# Altium footprint library Connector_Audio.PcbLib: 212 footprints (part 10 of 14)
Each footprint in its own frame and in the unit in brackets; x right, y up, seen from the top. Pads: shape width x height; smd on the part's side, far side on the other; paste and mask are expansions set on the pad; w line width, h text height; cw(c..) or ccw(c..) is an arc to the next point about the centre after c.
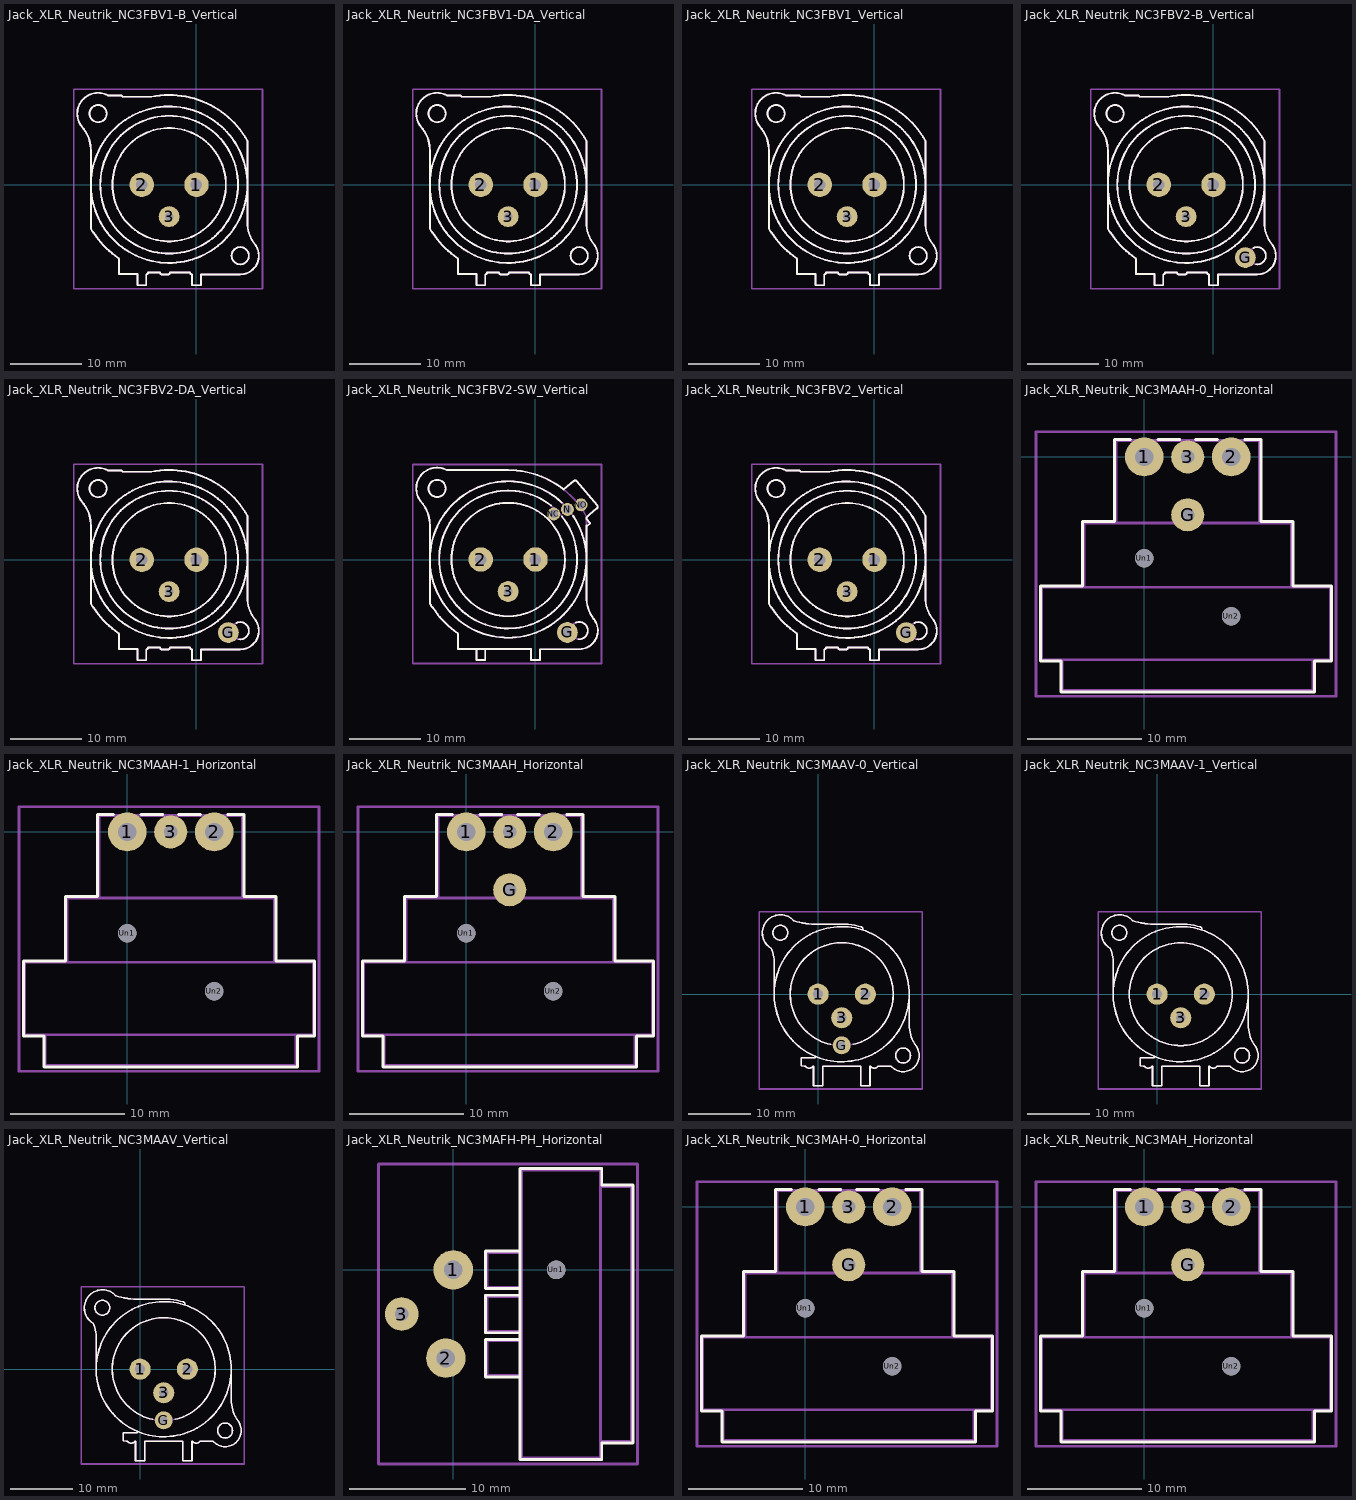
[diagram p9: the footprints below, top view; thin cyan lines are the x and y axes]

## Jack_XLR_Neutrik_NC3FBV1-B_Vertical [mm]
pads (3):
  round 3.4 hole 1.6: 1(0,0) 2(-7.62,0)
  round 2.9 hole 1.2: 3(-3.81,-4.45)
F.SilkS:
  circle w0.254: c6.09,-9.9 r1.2
  circle w0.254: c-3.81,0 r10.9
  circle w0.254: c-3.81,0 r9.6
  circle w0.254: c-3.81,0 r7.9
  circle w0.254: c-13.71,9.9 r1.2
  lines w0.254: -15.916,8.02 cw(c-19.72,4.76) -14.71,4.76 -14.71,-6.12 -14.43,-6.6 ccw(c-14.26,-6.49) -14.314,-6.685 ; -15.909,8.01 cw(c-13.71,9.9) -12.33,12.45 -10.41,12.45 -10.29,12.25 -6.3,12.25 ; -14.31,-6.69 ccw(c-3.81,0) -10.879,-10.249 ; -10.874,-10.253 cw(c-11.01,-10.4) -10.81,-10.39 -10.81,-12.45 -8.24,-12.45 -8.24,-14 -7,-14 -7,-12.5 ccw(c-7,-12.25) -6.75,-12.25 -5.07,-12.25 ccw(c-4.82,-12.25) -4.82,-12.5 -3.95,-12.5 ccw(c-3.95,-12.25) -3.7,-12.25 -0.88,-12.25 ccw(c-0.63,-12.25) -0.63,-12.5 -0.63,-14 0.62,-14 0.62,-12.5 6.09,-12.5 ccw(c6.09,-9.9) 8.111,-8.264 ; -6.284,12.253 cw(c-3.81,0) 7.09,6.12 7.09,-5.67 ccw(c12.07,-5.21) 8.112,-8.267
Top Assembly:
  circle w0.254: c6.09,-9.9 r1.2
  circle w0.254: c-3.81,0 r10.9
  circle w0.254: c-3.81,0 r9.6
  circle w0.254: c-3.81,0 r7.9
  circle w0.254: c-13.71,9.9 r1.2
  lines w0.254: -15.916,8.02 cw(c-19.72,4.76) -14.71,4.76 -14.71,-6.12 -14.43,-6.6 ccw(c-14.26,-6.49) -14.314,-6.685 ; -15.909,8.01 cw(c-13.71,9.9) -12.33,12.45 -10.41,12.45 -10.29,12.25 -6.3,12.25 ; -14.31,-6.69 ccw(c-3.81,0) -10.879,-10.249 ; -10.874,-10.253 cw(c-11.01,-10.4) -10.81,-10.39 -10.81,-12.45 -8.24,-12.45 -8.24,-14 -7,-14 -7,-12.5 ccw(c-7,-12.25) -6.75,-12.25 -5.07,-12.25 ccw(c-4.82,-12.25) -4.82,-12.5 -3.95,-12.5 ccw(c-3.95,-12.25) -3.7,-12.25 -0.88,-12.25 ccw(c-0.63,-12.25) -0.63,-12.5 -0.63,-14 0.62,-14 0.62,-12.5 6.09,-12.5 ccw(c6.09,-9.9) 8.111,-8.264 ; -6.284,12.253 cw(c-3.81,0) 7.09,6.12 7.09,-5.67 ccw(c12.07,-5.21) 8.112,-8.267
  text "'.Designator'" at -7.857,0.16 h1
Top Courtyard:
  lines w0.254: -17.1,-14.5 9.2,-14.5 9.2,13.3 -17.1,13.3 -17.1,-14.5
Top Designator:
  text ".Designator" at -11.568,-1.108 h1.52

## Jack_XLR_Neutrik_NC3FBV1-DA_Vertical [mm]
pads (3):
  round 3.4 hole 1.6: 1(0,0) 2(-7.62,0)
  round 2.9 hole 1.2: 3(-3.81,-4.45)
F.SilkS:
  circle w0.254: c6.09,-9.9 r1.2
  circle w0.254: c-3.81,0 r10.9
  circle w0.254: c-3.81,0 r9.6
  circle w0.254: c-3.81,0 r7.9
  circle w0.254: c-13.71,9.9 r1.2
  lines w0.254: -15.916,8.02 cw(c-19.72,4.76) -14.71,4.76 -14.71,-6.12 -14.43,-6.6 ccw(c-14.26,-6.49) -14.314,-6.685 ; -15.909,8.01 cw(c-13.71,9.9) -12.33,12.45 -10.41,12.45 -10.29,12.25 -6.3,12.25 ; -14.31,-6.69 ccw(c-3.81,0) -10.879,-10.249 ; -10.874,-10.253 cw(c-11.01,-10.4) -10.81,-10.39 -10.81,-12.45 -8.24,-12.45 -8.24,-14 -7,-14 -7,-12.5 ccw(c-7,-12.25) -6.75,-12.25 -5.07,-12.25 ccw(c-4.82,-12.25) -4.82,-12.5 -3.95,-12.5 ccw(c-3.95,-12.25) -3.7,-12.25 -0.88,-12.25 ccw(c-0.63,-12.25) -0.63,-12.5 -0.63,-14 0.62,-14 0.62,-12.5 6.09,-12.5 ccw(c6.09,-9.9) 8.111,-8.264 ; -6.284,12.253 cw(c-3.81,0) 7.09,6.12 7.09,-5.67 ccw(c12.07,-5.21) 8.112,-8.267
Top Assembly:
  circle w0.254: c6.09,-9.9 r1.2
  circle w0.254: c-3.81,0 r10.9
  circle w0.254: c-3.81,0 r9.6
  circle w0.254: c-3.81,0 r7.9
  circle w0.254: c-13.71,9.9 r1.2
  lines w0.254: -15.916,8.02 cw(c-19.72,4.76) -14.71,4.76 -14.71,-6.12 -14.43,-6.6 ccw(c-14.26,-6.49) -14.314,-6.685 ; -15.909,8.01 cw(c-13.71,9.9) -12.33,12.45 -10.41,12.45 -10.29,12.25 -6.3,12.25 ; -14.31,-6.69 ccw(c-3.81,0) -10.879,-10.249 ; -10.874,-10.253 cw(c-11.01,-10.4) -10.81,-10.39 -10.81,-12.45 -8.24,-12.45 -8.24,-14 -7,-14 -7,-12.5 ccw(c-7,-12.25) -6.75,-12.25 -5.07,-12.25 ccw(c-4.82,-12.25) -4.82,-12.5 -3.95,-12.5 ccw(c-3.95,-12.25) -3.7,-12.25 -0.88,-12.25 ccw(c-0.63,-12.25) -0.63,-12.5 -0.63,-14 0.62,-14 0.62,-12.5 6.09,-12.5 ccw(c6.09,-9.9) 8.111,-8.264 ; -6.284,12.253 cw(c-3.81,0) 7.09,6.12 7.09,-5.67 ccw(c12.07,-5.21) 8.112,-8.267
  text "'.Designator'" at -7.857,0.16 h1
Top Courtyard:
  lines w0.254: -17.1,-14.5 9.2,-14.5 9.2,13.3 -17.1,13.3 -17.1,-14.5
Top Designator:
  text ".Designator" at -11.568,-1.108 h1.52

## Jack_XLR_Neutrik_NC3FBV1_Vertical [mm]
pads (3):
  round 3.4 hole 1.6: 1(0,0) 2(-7.62,0)
  round 2.9 hole 1.2: 3(-3.81,-4.45)
F.SilkS:
  circle w0.254: c6.09,-9.9 r1.2
  circle w0.254: c-3.81,0 r10.9
  circle w0.254: c-3.81,0 r9.6
  circle w0.254: c-3.81,0 r7.9
  circle w0.254: c-13.71,9.9 r1.2
  lines w0.254: -15.916,8.02 cw(c-19.72,4.76) -14.71,4.76 -14.71,-6.12 -14.43,-6.6 ccw(c-14.26,-6.49) -14.314,-6.685 ; -15.909,8.01 cw(c-13.71,9.9) -12.33,12.45 -10.41,12.45 -10.29,12.25 -6.3,12.25 ; -14.31,-6.69 ccw(c-3.81,0) -10.879,-10.249 ; -10.874,-10.253 cw(c-11.01,-10.4) -10.81,-10.39 -10.81,-12.45 -8.24,-12.45 -8.24,-14 -7,-14 -7,-12.5 ccw(c-7,-12.25) -6.75,-12.25 -5.07,-12.25 ccw(c-4.82,-12.25) -4.82,-12.5 -3.95,-12.5 ccw(c-3.95,-12.25) -3.7,-12.25 -0.88,-12.25 ccw(c-0.63,-12.25) -0.63,-12.5 -0.63,-14 0.62,-14 0.62,-12.5 6.09,-12.5 ccw(c6.09,-9.9) 8.111,-8.264 ; -6.284,12.253 cw(c-3.81,0) 7.09,6.12 7.09,-5.67 ccw(c12.07,-5.21) 8.112,-8.267
Top Assembly:
  circle w0.254: c6.09,-9.9 r1.2
  circle w0.254: c-3.81,0 r10.9
  circle w0.254: c-3.81,0 r9.6
  circle w0.254: c-3.81,0 r7.9
  circle w0.254: c-13.71,9.9 r1.2
  lines w0.254: -15.916,8.02 cw(c-19.72,4.76) -14.71,4.76 -14.71,-6.12 -14.43,-6.6 ccw(c-14.26,-6.49) -14.314,-6.685 ; -15.909,8.01 cw(c-13.71,9.9) -12.33,12.45 -10.41,12.45 -10.29,12.25 -6.3,12.25 ; -14.31,-6.69 ccw(c-3.81,0) -10.879,-10.249 ; -10.874,-10.253 cw(c-11.01,-10.4) -10.81,-10.39 -10.81,-12.45 -8.24,-12.45 -8.24,-14 -7,-14 -7,-12.5 ccw(c-7,-12.25) -6.75,-12.25 -5.07,-12.25 ccw(c-4.82,-12.25) -4.82,-12.5 -3.95,-12.5 ccw(c-3.95,-12.25) -3.7,-12.25 -0.88,-12.25 ccw(c-0.63,-12.25) -0.63,-12.5 -0.63,-14 0.62,-14 0.62,-12.5 6.09,-12.5 ccw(c6.09,-9.9) 8.111,-8.264 ; -6.284,12.253 cw(c-3.81,0) 7.09,6.12 7.09,-5.67 ccw(c12.07,-5.21) 8.112,-8.267
  text "'.Designator'" at -7.857,0.16 h1
Top Courtyard:
  lines w0.254: -17.1,-14.5 9.2,-14.5 9.2,13.3 -17.1,13.3 -17.1,-14.5
Top Designator:
  text ".Designator" at -11.568,-1.108 h1.52

## Jack_XLR_Neutrik_NC3FBV2-B_Vertical [mm]
pads (4):
  round 3.4 hole 1.6: 1(0,0) 2(-7.62,0)
  round 2.9 hole 1.2: 3(-3.81,-4.45) G(4.44,-10.16)
F.SilkS:
  circle w0.254: c-3.81,0 r10.9
  circle w0.254: c-3.81,0 r9.6
  circle w0.254: c-3.81,0 r7.9
  circle w0.254: c-13.71,9.9 r1.2
  lines w0.254: -15.916,8.02 cw(c-19.72,4.76) -14.71,4.76 -14.71,-6.12 -14.43,-6.6 ccw(c-14.26,-6.49) -14.314,-6.685 ; -15.909,8.01 cw(c-13.71,9.9) -12.33,12.45 -10.41,12.45 -10.29,12.25 -6.3,12.25 ; -14.31,-6.69 ccw(c-3.81,0) -10.879,-10.249 ; -10.874,-10.253 cw(c-11.01,-10.4) -10.81,-10.39 -10.81,-12.45 -8.24,-12.45 -8.24,-14 -7,-14 -7,-12.5 ccw(c-7,-12.25) -6.75,-12.25 -5.07,-12.25 ccw(c-4.82,-12.25) -4.82,-12.5 -3.95,-12.5 ccw(c-3.95,-12.25) -3.7,-12.25 -0.88,-12.25 ccw(c-0.63,-12.25) -0.63,-12.5 -0.63,-14 0.62,-14 0.62,-12.5 6.09,-12.5 ccw(c6.09,-9.9) 8.111,-8.264 ; -6.284,12.253 cw(c-3.81,0) 7.09,6.12 7.09,-5.67 ccw(c12.07,-5.21) 8.112,-8.267 ; 5.563,-8.816 cw(c6.09,-9.9) 5.9,-11.09
Top Assembly:
  circle w0.254: c6.09,-9.9 r1.2
  circle w0.254: c-3.81,0 r10.9
  circle w0.254: c-3.81,0 r9.6
  circle w0.254: c-3.81,0 r7.9
  circle w0.254: c-13.71,9.9 r1.2
  lines w0.254: -15.916,8.02 cw(c-19.72,4.76) -14.71,4.76 -14.71,-6.12 -14.43,-6.6 ccw(c-14.26,-6.49) -14.314,-6.685 ; -15.909,8.01 cw(c-13.71,9.9) -12.33,12.45 -10.41,12.45 -10.29,12.25 -6.3,12.25 ; -14.31,-6.69 ccw(c-3.81,0) -10.879,-10.249 ; -10.874,-10.253 cw(c-11.01,-10.4) -10.81,-10.39 -10.81,-12.45 -8.24,-12.45 -8.24,-14 -7,-14 -7,-12.5 ccw(c-7,-12.25) -6.75,-12.25 -5.07,-12.25 ccw(c-4.82,-12.25) -4.82,-12.5 -3.95,-12.5 ccw(c-3.95,-12.25) -3.7,-12.25 -0.88,-12.25 ccw(c-0.63,-12.25) -0.63,-12.5 -0.63,-14 0.62,-14 0.62,-12.5 6.09,-12.5 ccw(c6.09,-9.9) 8.111,-8.264 ; -6.284,12.253 cw(c-3.81,0) 7.09,6.12 7.09,-5.67 ccw(c12.07,-5.21) 8.112,-8.267
  text "'.Designator'" at -7.857,0.16 h1
Top Courtyard:
  lines w0.254: -17.1,-14.5 9.2,-14.5 9.2,13.3 -17.1,13.3 -17.1,-14.5
Top Designator:
  text ".Designator" at -11.568,-1.108 h1.52

## Jack_XLR_Neutrik_NC3FBV2-DA_Vertical [mm]
pads (4):
  round 3.4 hole 1.6: 1(0,0) 2(-7.62,0)
  round 2.9 hole 1.2: 3(-3.81,-4.45) G(4.44,-10.16)
F.SilkS:
  circle w0.254: c-3.81,0 r10.9
  circle w0.254: c-3.81,0 r9.6
  circle w0.254: c-3.81,0 r7.9
  circle w0.254: c-13.71,9.9 r1.2
  lines w0.254: -15.916,8.02 cw(c-19.72,4.76) -14.71,4.76 -14.71,-6.12 -14.43,-6.6 ccw(c-14.26,-6.49) -14.314,-6.685 ; -15.909,8.01 cw(c-13.71,9.9) -12.33,12.45 -10.41,12.45 -10.29,12.25 -6.3,12.25 ; -14.31,-6.69 ccw(c-3.81,0) -10.879,-10.249 ; -10.874,-10.253 cw(c-11.01,-10.4) -10.81,-10.39 -10.81,-12.45 -8.24,-12.45 -8.24,-14 -7,-14 -7,-12.5 ccw(c-7,-12.25) -6.75,-12.25 -5.07,-12.25 ccw(c-4.82,-12.25) -4.82,-12.5 -3.95,-12.5 ccw(c-3.95,-12.25) -3.7,-12.25 -0.88,-12.25 ccw(c-0.63,-12.25) -0.63,-12.5 -0.63,-14 0.62,-14 0.62,-12.5 6.09,-12.5 ccw(c6.09,-9.9) 8.111,-8.264 ; -6.284,12.253 cw(c-3.81,0) 7.09,6.12 7.09,-5.67 ccw(c12.07,-5.21) 8.112,-8.267 ; 5.563,-8.816 cw(c6.09,-9.9) 5.9,-11.09
Top Assembly:
  circle w0.254: c6.09,-9.9 r1.2
  circle w0.254: c-3.81,0 r10.9
  circle w0.254: c-3.81,0 r9.6
  circle w0.254: c-3.81,0 r7.9
  circle w0.254: c-13.71,9.9 r1.2
  lines w0.254: -15.916,8.02 cw(c-19.72,4.76) -14.71,4.76 -14.71,-6.12 -14.43,-6.6 ccw(c-14.26,-6.49) -14.314,-6.685 ; -15.909,8.01 cw(c-13.71,9.9) -12.33,12.45 -10.41,12.45 -10.29,12.25 -6.3,12.25 ; -14.31,-6.69 ccw(c-3.81,0) -10.879,-10.249 ; -10.874,-10.253 cw(c-11.01,-10.4) -10.81,-10.39 -10.81,-12.45 -8.24,-12.45 -8.24,-14 -7,-14 -7,-12.5 ccw(c-7,-12.25) -6.75,-12.25 -5.07,-12.25 ccw(c-4.82,-12.25) -4.82,-12.5 -3.95,-12.5 ccw(c-3.95,-12.25) -3.7,-12.25 -0.88,-12.25 ccw(c-0.63,-12.25) -0.63,-12.5 -0.63,-14 0.62,-14 0.62,-12.5 6.09,-12.5 ccw(c6.09,-9.9) 8.111,-8.264 ; -6.284,12.253 cw(c-3.81,0) 7.09,6.12 7.09,-5.67 ccw(c12.07,-5.21) 8.112,-8.267
  text "'.Designator'" at -7.857,0.16 h1
Top Courtyard:
  lines w0.254: -17.1,-14.5 9.2,-14.5 9.2,13.3 -17.1,13.3 -17.1,-14.5
Top Designator:
  text ".Designator" at -11.568,-1.108 h1.52

## Jack_XLR_Neutrik_NC3FBV2-SW_Vertical [mm]
pads (7):
  round 3.4 hole 1.6: 1(0,0) 2(-7.62,0)
  round 2.9 hole 1.2: 3(-3.81,-4.45) G(4.44,-10.16)
  round 1.8 hole 1.2: N(4.445,6.985) NC(2.54,6.35) NO(6.35,7.62)
F.SilkS:
  circle w0.254: c-3.81,0 r7.9
  circle w0.254: c-13.71,9.9 r1.2
  lines w0.254: -15.916,8.02 cw(c-19.72,4.76) -14.71,4.76 -14.71,-6.12 ccw(c-3.809,0.001) -14.421,-6.608 ; -15.912,8.014 cw(c-13.71,9.9) -12.33,12.45 -3.81,12.45 ; -14.42,-6.61 ccw(c-14.26,-6.49) -14.305,-6.685 ; -14.3,-6.69 ccw(c-3.81,0) -10.87,-10.245 ; -10.873,-10.243 cw(c-11.01,-10.39) -10.81,-10.37 -10.81,-12.45 -0.63,-12.45 -0.63,-12.5 ; -8.24,-12.45 -8.24,-14 -7,-14 -7,-12.45 ; -4.81,-12.5 -3.94,-12.5 ; -3.814,12.45 cw(c-3.81,0) 3.92,9.759 ; -0.675,-12.5 -0.63,-12.5 ; 2.148,7.533 ccw(c-3.81,0) 3.69,6 ; 3.686,7.91 ccw(c-3.81,0) 5.22,6.1 ; 3.93,9.76 5.35,10.94 ; 5.3,10.9 cw(c5.54,10.67) 5.77,10.91 8.6,7.54 cw(c8.37,7.35) 8.56,7.12 7.49,6.22 7.09,5.8 7.09,5.68 7.63,5.03 7.25,4.71 7.09,4.72 7.09,-5.24 ccw(c12.08,-5.24) 8.142,-8.305 ; 5.625,-8.79 cw(c6.09,-9.9) 6,-11.1 ; 8.142,-8.303 cw(c6.09,-9.9) 6.09,-12.5 0.62,-12.5 0.62,-14 -0.63,-14 -0.63,-12.5
Top Assembly:
  circle w0.254: c6.09,-9.9 r1.2
  circle w0.254: c-3.81,0 r10.9
  circle w0.254: c-3.81,0 r9.6
  circle w0.254: c-3.81,0 r7.9
  circle w0.254: c-13.71,9.9 r1.2
  lines w0.254: -15.916,8.02 cw(c-19.72,4.76) -14.71,4.76 -14.71,-6.12 ccw(c-3.809,0.001) -14.421,-6.608 ; -15.912,8.014 cw(c-13.71,9.9) -12.33,12.45 -3.81,12.45 ; -14.42,-6.61 ccw(c-14.26,-6.49) -14.305,-6.685 ; -14.3,-6.69 ccw(c-3.81,0) -10.87,-10.245 ; -10.873,-10.243 cw(c-11.01,-10.39) -10.81,-10.37 -10.81,-12.45 -0.63,-12.45 -0.63,-12.5 ; -8.24,-12.45 -8.24,-14 -7,-14 -7,-12.45 ; -4.81,-12.5 -3.94,-12.5 ; -3.808,12.45 cw(c-3.81,0) 7.09,6.015 7.09,-5.24 ccw(c12.08,-5.24) 8.142,-8.305 ; -0.675,-12.5 -0.63,-12.5 ; 3.93,9.76 5.3,10.9 cw(c5.54,10.67) 5.77,10.91 8.6,7.54 cw(c8.37,7.35) 8.56,7.12 7.49,6.22 7.09,5.8 ; 7.09,4.72 7.25,4.71 7.63,5.03 7.09,5.68 ; 8.142,-8.303 cw(c6.09,-9.9) 6.09,-12.5 0.62,-12.5 0.62,-14 -0.63,-14 -0.63,-12.5
  text "'.Designator'" at -7.857,0.16 h1
Top Courtyard:
  lines w0.254: -17.1,-14.5 9.2,-14.5 9.2,13.25 -17.1,13.25 -17.1,-14.5
Top Designator:
  text ".Designator" at -11.568,-1.133 h1.52

## Jack_XLR_Neutrik_NC3FBV2_Vertical [mm]
pads (4):
  round 3.4 hole 1.6: 1(0,0) 2(-7.62,0)
  round 2.9 hole 1.2: 3(-3.81,-4.45) G(4.44,-10.16)
F.SilkS:
  circle w0.254: c-3.81,0 r10.9
  circle w0.254: c-3.81,0 r9.6
  circle w0.254: c-3.81,0 r7.9
  circle w0.254: c-13.71,9.9 r1.2
  lines w0.254: -15.916,8.02 cw(c-19.72,4.76) -14.71,4.76 -14.71,-6.12 -14.43,-6.6 ccw(c-14.26,-6.49) -14.314,-6.685 ; -15.909,8.01 cw(c-13.71,9.9) -12.33,12.45 -10.41,12.45 -10.29,12.25 -6.3,12.25 ; -14.31,-6.69 ccw(c-3.81,0) -10.879,-10.249 ; -10.874,-10.253 cw(c-11.01,-10.4) -10.81,-10.39 -10.81,-12.45 -8.24,-12.45 -8.24,-14 -7,-14 -7,-12.5 ccw(c-7,-12.25) -6.75,-12.25 -5.07,-12.25 ccw(c-4.82,-12.25) -4.82,-12.5 -3.95,-12.5 ccw(c-3.95,-12.25) -3.7,-12.25 -0.88,-12.25 ccw(c-0.63,-12.25) -0.63,-12.5 -0.63,-14 0.62,-14 0.62,-12.5 6.09,-12.5 ccw(c6.09,-9.9) 8.111,-8.264 ; -6.284,12.253 cw(c-3.81,0) 7.09,6.12 7.09,-5.67 ccw(c12.07,-5.21) 8.112,-8.267 ; 5.563,-8.816 cw(c6.09,-9.9) 5.9,-11.09
Top Assembly:
  circle w0.254: c6.09,-9.9 r1.2
  circle w0.254: c-3.81,0 r10.9
  circle w0.254: c-3.81,0 r9.6
  circle w0.254: c-3.81,0 r7.9
  circle w0.254: c-13.71,9.9 r1.2
  lines w0.254: -15.916,8.02 cw(c-19.72,4.76) -14.71,4.76 -14.71,-6.12 -14.43,-6.6 ccw(c-14.26,-6.49) -14.314,-6.685 ; -15.909,8.01 cw(c-13.71,9.9) -12.33,12.45 -10.41,12.45 -10.29,12.25 -6.3,12.25 ; -14.31,-6.69 ccw(c-3.81,0) -10.879,-10.249 ; -10.874,-10.253 cw(c-11.01,-10.4) -10.81,-10.39 -10.81,-12.45 -8.24,-12.45 -8.24,-14 -7,-14 -7,-12.5 ccw(c-7,-12.25) -6.75,-12.25 -5.07,-12.25 ccw(c-4.82,-12.25) -4.82,-12.5 -3.95,-12.5 ccw(c-3.95,-12.25) -3.7,-12.25 -0.88,-12.25 ccw(c-0.63,-12.25) -0.63,-12.5 -0.63,-14 0.62,-14 0.62,-12.5 6.09,-12.5 ccw(c6.09,-9.9) 8.111,-8.264 ; -6.284,12.253 cw(c-3.81,0) 7.09,6.12 7.09,-5.67 ccw(c12.07,-5.21) 8.112,-8.267
  text "'.Designator'" at -7.857,0.16 h1
Top Courtyard:
  lines w0.254: -17.1,-14.5 9.2,-14.5 9.2,13.3 -17.1,13.3 -17.1,-14.5
Top Designator:
  text ".Designator" at -11.568,-1.108 h1.52

## Jack_XLR_Neutrik_NC3MAAH-0_Horizontal [mm]
pads (6):
  round 3.4 hole 1.6: 1(0,0) 2(7.62,0)
  round 2.9 hole 1.2: 3(3.81,0) G(3.81,-5.08)
  round 1.6 hole 1.6: Un1(0,-8.89) Un2(7.62,-13.97)
F.SilkS:
  lines w0.254: -1.19,1.54 -2.61,1.54 -2.61,-5.66 -5.41,-5.66 -5.41,-11.31 -9.11,-11.31 -9.11,-17.9 -7.31,-17.9 -7.31,-20.6 14.93,-20.6 14.93,-17.9 16.43,-17.9 16.43,-11.31 13.03,-11.31 13.03,-5.66 10.23,-5.66 10.23,1.54 8.81,1.54 ; 1.21,1.54 3.11,1.54 ; 4.51,1.54 6.41,1.54
Top Assembly:
  lines w0.254: -7.19,-17.78 -7.19,-20.48 14.81,-20.48 14.81,-17.78 ; -5.29,-11.43 -5.29,-5.78 12.91,-5.78 12.91,-11.43 ; -2.49,-5.78 -2.49,1.42 10.11,1.42 10.11,-5.78 ; -8.99,-17.78 16.31,-17.78 16.31,-11.43 -8.99,-11.43 -8.99,-17.78
  text "'.Designator'" at -0.237,-16.27 h1
Top Courtyard:
  lines w0.254: -9.49,-20.98 16.81,-20.98 16.81,2.2 -9.49,2.2 -9.49,-20.98
Top Designator:
  text ".Designator" at -3.958,-9.898 h1.52
Dwgs.User:
  lines w0.254: -8.99,-17.78 16.31,-17.78

## Jack_XLR_Neutrik_NC3MAAH-1_Horizontal [mm]
pads (5):
  round 3.4 hole 1.6: 1(0,0) 2(7.62,0)
  round 2.9 hole 1.2: 3(3.81,0)
  round 1.6 hole 1.6: Un1(0,-8.89) Un2(7.62,-13.97)
F.SilkS:
  lines w0.254: -1.19,1.54 -2.61,1.54 -2.61,-5.66 -5.41,-5.66 -5.41,-11.31 -9.11,-11.31 -9.11,-17.9 -7.31,-17.9 -7.31,-20.6 14.93,-20.6 14.93,-17.9 16.43,-17.9 16.43,-11.31 13.03,-11.31 13.03,-5.66 10.23,-5.66 10.23,1.54 8.81,1.54 ; 1.21,1.54 3.11,1.54 ; 4.51,1.54 6.41,1.54
Top Assembly:
  lines w0.254: -7.19,-17.78 -7.19,-20.48 14.81,-20.48 14.81,-17.78 ; -5.29,-11.43 -5.29,-5.78 12.91,-5.78 12.91,-11.43 ; -2.49,-5.78 -2.49,1.42 10.11,1.42 10.11,-5.78 ; -8.99,-17.78 16.31,-17.78 16.31,-11.43 -8.99,-11.43 -8.99,-17.78
  text "'.Designator'" at -0.237,-16.27 h1
Top Courtyard:
  lines w0.254: -9.49,-20.98 16.81,-20.98 16.81,2.2 -9.49,2.2 -9.49,-20.98
Top Designator:
  text ".Designator" at -3.958,-9.898 h1.52
Dwgs.User:
  lines w0.254: -8.99,-17.78 16.31,-17.78

## Jack_XLR_Neutrik_NC3MAAH_Horizontal [mm]
pads (6):
  round 3.4 hole 1.6: 1(0,0) 2(7.62,0)
  round 2.9 hole 1.2: 3(3.81,0) G(3.81,-5.08)
  round 1.6 hole 1.6: Un1(0,-8.89) Un2(7.62,-13.97)
F.SilkS:
  lines w0.254: -1.19,1.54 -2.61,1.54 -2.61,-5.66 -5.41,-5.66 -5.41,-11.31 -9.11,-11.31 -9.11,-17.9 -7.31,-17.9 -7.31,-20.6 14.93,-20.6 14.93,-17.9 16.43,-17.9 16.43,-11.31 13.03,-11.31 13.03,-5.66 10.23,-5.66 10.23,1.54 8.81,1.54 ; 1.21,1.54 3.11,1.54 ; 4.51,1.54 6.41,1.54
Top Assembly:
  lines w0.254: -7.19,-17.78 -7.19,-20.48 14.81,-20.48 14.81,-17.78 ; -5.29,-11.43 -5.29,-5.78 12.91,-5.78 12.91,-11.43 ; -2.49,-5.78 -2.49,1.42 10.11,1.42 10.11,-5.78 ; -8.99,-17.78 16.31,-17.78 16.31,-11.43 -8.99,-11.43 -8.99,-17.78
  text "'.Designator'" at -0.237,-16.27 h1
Top Courtyard:
  lines w0.254: -9.49,-20.98 16.81,-20.98 16.81,2.2 -9.49,2.2 -9.49,-20.98
Top Designator:
  text ".Designator" at -3.958,-9.898 h1.52
Dwgs.User:
  lines w0.254: -8.99,-17.78 16.31,-17.78

## Jack_XLR_Neutrik_NC3MAAV-0_Vertical [mm]
pads (4):
  round 3.4 hole 1.6: 1(0,0) 2(7.62,0) 3(3.81,-3.81)
  round 2.9 hole 1.2: G(3.81,-8.255)
F.SilkS:
  circle w0.254: c13.71,-9.9 r1.2
  circle w0.254: c3.81,0 r10.9
  circle w0.254: c-6.09,9.9 r1.2
  lines w0.254: -7.589,7.414 cw(c-6.09,9.9) -3.94,11.85 ; -7.585,7.408 cw(c-12.09,5.24) -7.09,5.24 -7.09,0 ; -3.934,11.845 ccw(c-0.53,22.2) -0.53,11.3 3.81,11.3 cw(c3.81,0) 7,10.84 ; -0.43,-10.05 -0.43,-10.25 -2.74,-10.25 -2.74,-11.53 -2.24,-11.6 -2.06,-11.6 ccw(c-1.44,-11.18) -0.821,-11.601 -0.75,-11.6 -0.75,-14.8 0.75,-14.8 0.75,-11.6 6.87,-11.6 6.87,-14.8 8.37,-14.8 8.37,-11.6 8.44,-11.6 ccw(c9.06,-11.18) 9.679,-11.601 11.74,-11.6 ccw(c13.71,-9.9) 15.815,-8.371 ; 2,-8.1 cw(c3.81,0) 5.635,-8.097 ; 7.004,10.838 cw(c6.92,10.56) 7.21,10.55 7.21,10.36 ; 14.71,0 14.71,-4.95 ccw(c20.56,-4.95) 15.815,-8.372
Top Assembly:
  circle w0.254: c13.71,-9.9 r1.2
  circle w0.254: c3.81,0 r10.9
  circle w0.254: c3.81,0 r8.3
  circle w0.254: c-6.09,9.9 r1.2
  lines w0.254: -7.589,7.414 cw(c-6.09,9.9) -3.94,11.85 ; -7.585,7.408 cw(c-12.09,5.24) -7.09,5.24 -7.09,0 ; -3.934,11.845 ccw(c-0.53,22.2) -0.53,11.3 3.81,11.3 cw(c3.81,0) 7,10.84 ; -0.43,-10.05 -0.43,-10.25 -2.74,-10.25 -2.74,-11.53 -2.24,-11.6 -2.06,-11.6 ccw(c-1.44,-11.18) -0.821,-11.601 -0.75,-11.6 -0.75,-14.8 0.75,-14.8 0.75,-11.6 6.87,-11.6 6.87,-14.8 8.37,-14.8 8.37,-11.6 8.44,-11.6 ccw(c9.06,-11.18) 9.679,-11.601 11.74,-11.6 ccw(c13.71,-9.9) 15.815,-8.371 ; 7.004,10.838 cw(c6.92,10.56) 7.21,10.55 7.21,10.36 ; 14.71,0 14.71,-4.95 ccw(c20.56,-4.95) 15.815,-8.372
  text "'.Designator'" at -0.237,0.16 h1
Top Courtyard:
  lines w0.254: -9.5,-15.3 16.8,-15.3 16.8,13.3 -9.5,13.3 -9.5,-15.3
Top Designator:
  text ".Designator" at -3.968,-1.508 h1.52

## Jack_XLR_Neutrik_NC3MAAV-1_Vertical [mm]
pads (3):
  round 3.4 hole 1.6: 1(0,0) 2(7.62,0) 3(3.81,-3.81)
F.SilkS:
  circle w0.254: c13.71,-9.9 r1.2
  circle w0.254: c3.81,0 r10.9
  circle w0.254: c3.81,0 r8.3
  circle w0.254: c-6.09,9.9 r1.2
  lines w0.254: -7.589,7.414 cw(c-6.09,9.9) -3.94,11.85 ; -7.585,7.408 cw(c-12.09,5.24) -7.09,5.24 -7.09,0 ; -3.934,11.845 ccw(c-0.53,22.2) -0.53,11.3 3.81,11.3 cw(c3.81,0) 7,10.84 ; -0.43,-10.05 -0.43,-10.25 -2.74,-10.25 -2.74,-11.53 -2.24,-11.6 -2.06,-11.6 ccw(c-1.44,-11.18) -0.821,-11.601 -0.75,-11.6 -0.75,-14.8 0.75,-14.8 0.75,-11.6 6.87,-11.6 6.87,-14.8 8.37,-14.8 8.37,-11.6 8.44,-11.6 ccw(c9.06,-11.18) 9.679,-11.601 11.74,-11.6 ccw(c13.71,-9.9) 15.815,-8.371 ; 7.004,10.838 cw(c6.92,10.56) 7.21,10.55 7.21,10.36 ; 14.71,0 14.71,-4.95 ccw(c20.56,-4.95) 15.815,-8.372
Top Assembly:
  circle w0.254: c13.71,-9.9 r1.2
  circle w0.254: c3.81,0 r10.9
  circle w0.254: c3.81,0 r8.3
  circle w0.254: c-6.09,9.9 r1.2
  lines w0.254: -7.589,7.414 cw(c-6.09,9.9) -3.94,11.85 ; -7.585,7.408 cw(c-12.09,5.24) -7.09,5.24 -7.09,0 ; -3.934,11.845 ccw(c-0.53,22.2) -0.53,11.3 3.81,11.3 cw(c3.81,0) 7,10.84 ; -0.43,-10.05 -0.43,-10.25 -2.74,-10.25 -2.74,-11.53 -2.24,-11.6 -2.06,-11.6 ccw(c-1.44,-11.18) -0.821,-11.601 -0.75,-11.6 -0.75,-14.8 0.75,-14.8 0.75,-11.6 6.87,-11.6 6.87,-14.8 8.37,-14.8 8.37,-11.6 8.44,-11.6 ccw(c9.06,-11.18) 9.679,-11.601 11.74,-11.6 ccw(c13.71,-9.9) 15.815,-8.371 ; 7.004,10.838 cw(c6.92,10.56) 7.21,10.55 7.21,10.36 ; 14.71,0 14.71,-4.95 ccw(c20.56,-4.95) 15.815,-8.372
  text "'.Designator'" at -0.237,0.16 h1
Top Courtyard:
  lines w0.254: -9.5,-15.3 16.8,-15.3 16.8,13.3 -9.5,13.3 -9.5,-15.3
Top Designator:
  text ".Designator" at -3.968,-1.508 h1.52

## Jack_XLR_Neutrik_NC3MAAV_Vertical [mm]
pads (4):
  round 3.4 hole 1.6: 1(0,0) 2(7.62,0) 3(3.81,-3.81)
  round 2.9 hole 1.2: G(3.81,-8.255)
F.SilkS:
  circle w0.254: c13.71,-9.9 r1.2
  circle w0.254: c3.81,0 r10.9
  circle w0.254: c-6.09,9.9 r1.2
  lines w0.254: -7.589,7.414 cw(c-6.09,9.9) -3.94,11.85 ; -7.585,7.408 cw(c-12.09,5.24) -7.09,5.24 -7.09,0 ; -3.934,11.845 ccw(c-0.53,22.2) -0.53,11.3 3.81,11.3 cw(c3.81,0) 7,10.84 ; -0.43,-10.05 -0.43,-10.25 -2.74,-10.25 -2.74,-11.53 -2.24,-11.6 -2.06,-11.6 ccw(c-1.44,-11.18) -0.821,-11.601 -0.75,-11.6 -0.75,-14.8 0.75,-14.8 0.75,-11.6 6.87,-11.6 6.87,-14.8 8.37,-14.8 8.37,-11.6 8.44,-11.6 ccw(c9.06,-11.18) 9.679,-11.601 11.74,-11.6 ccw(c13.71,-9.9) 15.815,-8.371 ; 2,-8.1 cw(c3.81,0) 5.635,-8.097 ; 7.004,10.838 cw(c6.92,10.56) 7.21,10.55 7.21,10.36 ; 14.71,0 14.71,-4.95 ccw(c20.56,-4.95) 15.815,-8.372
Top Assembly:
  circle w0.254: c13.71,-9.9 r1.2
  circle w0.254: c3.81,0 r10.9
  circle w0.254: c3.81,0 r8.3
  circle w0.254: c-6.09,9.9 r1.2
  lines w0.254: -7.589,7.414 cw(c-6.09,9.9) -3.94,11.85 ; -7.585,7.408 cw(c-12.09,5.24) -7.09,5.24 -7.09,0 ; -3.934,11.845 ccw(c-0.53,22.2) -0.53,11.3 3.81,11.3 cw(c3.81,0) 7,10.84 ; -0.43,-10.05 -0.43,-10.25 -2.74,-10.25 -2.74,-11.53 -2.24,-11.6 -2.06,-11.6 ccw(c-1.44,-11.18) -0.821,-11.601 -0.75,-11.6 -0.75,-14.8 0.75,-14.8 0.75,-11.6 6.87,-11.6 6.87,-14.8 8.37,-14.8 8.37,-11.6 8.44,-11.6 ccw(c9.06,-11.18) 9.679,-11.601 11.74,-11.6 ccw(c13.71,-9.9) 15.815,-8.371 ; 7.004,10.838 cw(c6.92,10.56) 7.21,10.55 7.21,10.36 ; 14.71,0 14.71,-4.95 ccw(c20.56,-4.95) 15.815,-8.372
  text "'.Designator'" at -0.237,0.16 h1
Top Courtyard:
  lines w0.254: -9.5,-15.3 16.8,-15.3 16.8,13.3 -9.5,13.3 -9.5,-15.3
Top Designator:
  text ".Designator" at -3.968,-1.508 h1.52

## Jack_XLR_Neutrik_NC3MAFH-PH_Horizontal [mm]
pads (4):
  round 3.4 hole 1.6: 1(0,0) 2(-0.635,-7.62)
  round 2.9 hole 1.2: 3(-4.45,-3.81)
  round 1.6 hole 1.6: Un1(8.89,0)
F.SilkS:
  lines w0.254: 5.78,-9.24 2.78,-9.24 2.78,-6 5.78,-6 ; 5.78,-5.43 2.78,-5.43 2.78,-2.19 5.78,-2.19 ; 5.78,-1.62 2.78,-1.62 2.78,1.62 5.78,1.62 ; 5.78,-16.38 12.82,-16.38 12.82,-14.93 15.52,-14.93 15.52,7.31 12.82,7.31 12.82,8.76 5.78,8.76 5.78,-16.38
Top Assembly:
  lines w0.254: 5.9,-9.12 2.9,-9.12 2.9,-6.12 5.9,-6.12 ; 5.9,-5.31 2.9,-5.31 2.9,-2.31 5.9,-2.31 ; 5.9,-1.5 2.9,-1.5 2.9,1.5 5.9,1.5 ; 12.7,-14.81 15.4,-14.81 15.4,7.19 12.7,7.19 ; 5.9,-16.26 12.7,-16.26 12.7,8.64 5.9,8.64 5.9,-16.26
  text "'.Designator'" at 5.253,-4.65 h1
Top Courtyard:
  lines w0.254: -6.45,-16.76 15.9,-16.76 15.9,9.14 -6.45,9.14 -6.45,-16.76
Top Designator:
  text ".Designator" at -2.893,-4.318 h1.52
Dwgs.User:
  lines w0.254: 12.7,-16.26 12.7,8.64

## Jack_XLR_Neutrik_NC3MAH-0_Horizontal [mm]
pads (6):
  round 3.4 hole 1.6: 1(0,0) 2(7.62,0)
  round 2.9 hole 1.2: 3(3.81,0) G(3.81,-5.08)
  round 1.6 hole 1.6: Un1(0,-8.89) Un2(7.62,-13.97)
F.SilkS:
  lines w0.254: -1.19,1.54 -2.61,1.54 -2.61,-5.66 -5.41,-5.66 -5.41,-11.31 -9.11,-11.31 -9.11,-17.9 -7.31,-17.9 -7.31,-20.6 14.93,-20.6 14.93,-17.9 16.43,-17.9 16.43,-11.31 13.03,-11.31 13.03,-5.66 10.23,-5.66 10.23,1.54 8.81,1.54 ; 1.21,1.54 3.11,1.54 ; 4.51,1.54 6.41,1.54
Top Assembly:
  lines w0.254: -7.19,-17.78 -7.19,-20.48 14.81,-20.48 14.81,-17.78 ; -5.29,-11.43 -5.29,-5.78 12.91,-5.78 12.91,-11.43 ; -2.49,-5.78 -2.49,1.42 10.11,1.42 10.11,-5.78 ; -8.99,-17.78 16.31,-17.78 16.31,-11.43 -8.99,-11.43 -8.99,-17.78
  text "'.Designator'" at -0.237,-16.27 h1
Top Courtyard:
  lines w0.254: -9.49,-20.98 16.81,-20.98 16.81,2.2 -9.49,2.2 -9.49,-20.98
Top Designator:
  text ".Designator" at -3.958,-9.898 h1.52
Dwgs.User:
  lines w0.254: -8.99,-17.78 16.31,-17.78

## Jack_XLR_Neutrik_NC3MAH_Horizontal [mm]
pads (6):
  round 3.4 hole 1.6: 1(0,0) 2(7.62,0)
  round 2.9 hole 1.2: 3(3.81,0) G(3.81,-5.08)
  round 1.6 hole 1.6: Un1(0,-8.89) Un2(7.62,-13.97)
F.SilkS:
  lines w0.254: -1.19,1.54 -2.61,1.54 -2.61,-5.66 -5.41,-5.66 -5.41,-11.31 -9.11,-11.31 -9.11,-17.9 -7.31,-17.9 -7.31,-20.6 14.93,-20.6 14.93,-17.9 16.43,-17.9 16.43,-11.31 13.03,-11.31 13.03,-5.66 10.23,-5.66 10.23,1.54 8.81,1.54 ; 1.21,1.54 3.11,1.54 ; 4.51,1.54 6.41,1.54
Top Assembly:
  lines w0.254: -7.19,-17.78 -7.19,-20.48 14.81,-20.48 14.81,-17.78 ; -5.29,-11.43 -5.29,-5.78 12.91,-5.78 12.91,-11.43 ; -2.49,-5.78 -2.49,1.42 10.11,1.42 10.11,-5.78 ; -8.99,-17.78 16.31,-17.78 16.31,-11.43 -8.99,-11.43 -8.99,-17.78
  text "'.Designator'" at -0.237,-16.27 h1
Top Courtyard:
  lines w0.254: -9.49,-20.98 16.81,-20.98 16.81,2.2 -9.49,2.2 -9.49,-20.98
Top Designator:
  text ".Designator" at -3.958,-9.898 h1.52
Dwgs.User:
  lines w0.254: -8.99,-17.78 16.31,-17.78